# EAGLE library part DISTILLERY_MICROCHIP_BY_ELEMENT14_BATCH_1_24LC16B-I/SN (library power_v2)
16K I2C Serial EEPROM
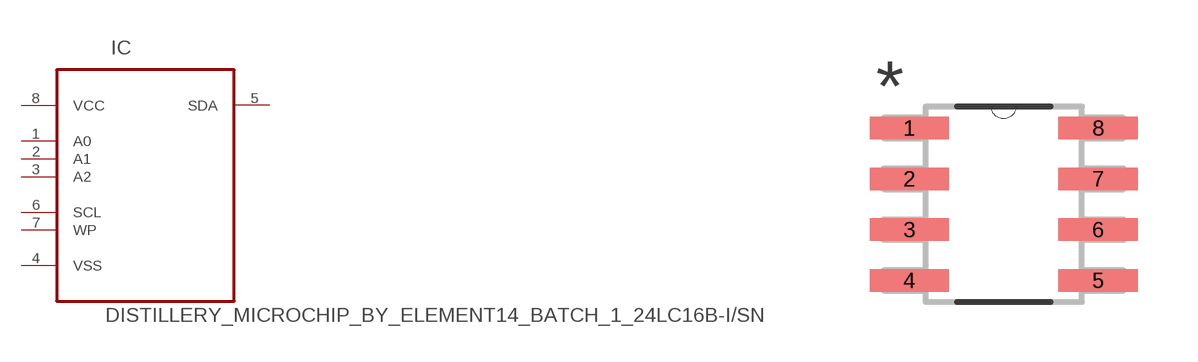
[diagram p2: symbol with the pads of DISTILLERY_MICROCHIP_BY_ELEMENT14_BATCH_1_SOIC127P600X175-8N; footprint DISTILLERY_MICROCHIP_BY_ELEMENT14_BATCH_1_SOIC127P600X175-8N]

Designator prefix IC

## DISTILLERY_MICROCHIP_BY_ELEMENT14_BATCH_1_24LC16B-I/SN (MPN: 24LC16B-I/SN; OC_FARNELL: 1296575; OC_NEWARK: 69K7670; PACKAGE: SOIC-8; SUPPLIER: MICROCHIP)  [DISTILLERY_MICROCHIP_BY_ELEMENT14_BATCH_1_SOIC127P600X175-8N]
1  A0  in
2  A1  in
3  A2  in
4  VSS  pas
5  SDA
6  SCL  in
7  WP  in
8  VCC  pwr

## Footprint DISTILLERY_MICROCHIP_BY_ELEMENT14_BATCH_1_SOIC127P600X175-8N (pad centres in mm)
smd 1.981 x 0.559: 1 -2.362,1.905; 2 -2.362,0.635; 3 -2.362,-0.635; 4 -2.362,-1.905; 5 2.362,-1.905; 6 2.362,-0.635; 7 2.362,0.635; 8 2.362,1.905